# Altium footprint library 61304011121-2.PcbLib: 1 footprints
Each footprint in its own frame and in the unit in brackets; x right, y up, seen from the top. Pads: shape width x height; smd on the part's side, far side on the other; paste and mask are expansions set on the pad; w line width, h text height; cw(c..) or ccw(c..) is an arc to the next point about the centre after c.
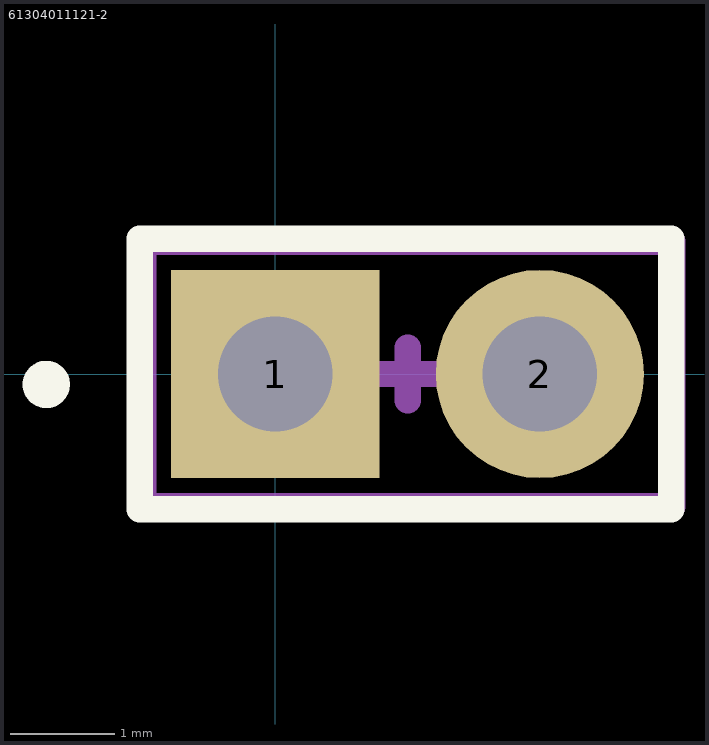
[diagram p0: the footprint, top view; thin cyan lines are the x and y axes]

## 61304011121-2 [mm]
pads (2):
  rect 2x2 hole 1.1 mask+0.051: 1(0,0)
  round 2 hole 1.1 mask+0.051: 2(2.54,0)
Top Overlay:
  circle w0.254: c-2.2,-0.1 r0.1
  lines w0.254: -1.3,-1.3 3.8,-1.3 3.8,1.3 -1.3,1.3 -1.3,-1.3
Mechanical 13:
  lines w0.254: -1.27,-1.27 -1.27,1.27 3.81,1.27 3.81,-1.27 -1.27,-1.27
Mechanical 15:
  lines w0.254: 1.016,0 1.27,0 ; 1.524,0 1.27,0 ; 1.27,0 1.27,-0.254 1.27,0.254 1.27,0
3D body "61304011121-2.stp": height 8.34, standoff -3.05, extent -1.27,-1.272 3.81,1.268